# Altium schematic symbol library Modules.SchLib: 5 symbols
Pins are listed as number, name and electrical type; pins without a type are passive.

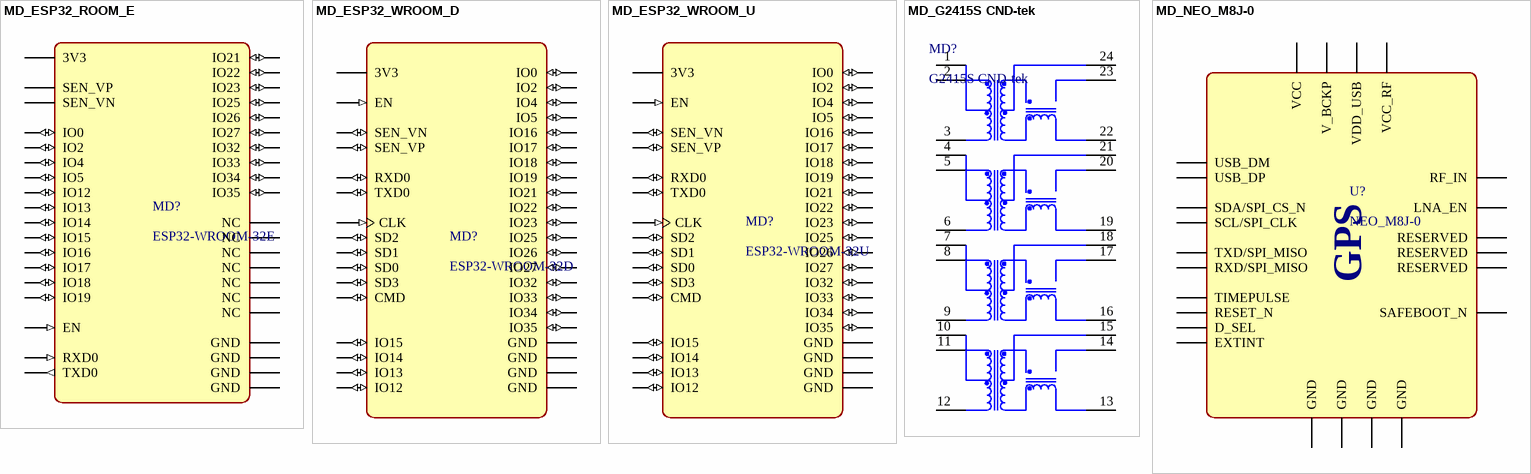
[diagram p0: symbols MD_ESP32_ROOM_E to MD_NEO_M8J-0]

## MD_ESP32_ROOM_E
designator MD?, comment ESP32-WROOM-32E
Multiprotocol Modules SMD Module ESP32-WROOM-32E, ESP32-D0WD-V3, 4 MB SPI flash, PCB antenna; Mrf. Part: ?; LSCS Part: ?; JLCPCB Part: ?
footprint MD_ESP32_ROOM_E
pins: 1 GND, 2 3V3, 3 EN (in), 4 SEN_VP, 5 SEN_VN, 6 IO34 (io), 7 IO35 (io), 8 IO32 (io), 9 IO33 (io), 10 IO25 (io), 11 IO26 (io), 12 IO27 (io), 13 IO14 (io), 14 IO12 (io), 15 GND, 16 IO13 (io), 17 NC, 18 NC, 19 NC, 20 NC, 21 NC, 22 NC, 23 IO15 (io), 24 IO2 (io), 25 IO0 (io), 26 IO4 (io), 27 IO16 (io), 28 IO17 (io), 29 IO5 (io), 30 IO18 (io), 31 IO19 (io), 32 NC, 33 IO21 (io), 34 RXD0 (in), 35 TXD0 (out), 36 IO22 (io), 37 IO23 (io), 38 GND, 39 GND

## MD_ESP32_WROOM_D
designator MD?, comment ESP32-WROOM-32D
core ESP32-D0WD, 32Mbits, 3.3V, 40Mhz, onboard antenna; Mrf. Part: ?; LCSCPCB Part: ?; JLCPCB Part: ?
footprint MD_ESP32_WROOM_D
pins: 1 GND, 2 3V3, 3 EN (in), 4 SEN_VP (io), 5 SEN_VN (io), 6 IO34 (io), 7 IO35 (io), 8 IO32 (io), 9 IO33 (io), 10 IO25 (io), 11 IO26 (io), 12 IO27 (io), 13 IO14 (io), 14 IO12 (io), 15 GND (power), 16 IO13 (io), 17 SD2 (io), 18 SD3 (io), 19 CMD (io), 20 CLK (in), 21 SD0 (io), 22 SD1 (io), 23 IO15 (io), 24 IO2 (io), 25 IO0 (io), 26 IO4 (io), 27 IO16 (io), 28 IO17 (io), 29 IO5 (io), 30 IO18 (io), 31 IO19 (io), 33 IO21 (io), 34 RXD0 (io), 35 TXD0 (io), 36 IO22 (io), 37 IO23 (io), 38 GND (power), 39 GND (power)

## MD_ESP32_WROOM_U
designator MD?, comment ESP32-WROOM-32U
Core ESP32-D0WD, 32Mbits, 3.3V, 40Mhz, U.FL connector; Mrf. Part: ?; LCSCPCB Part: ?; JLCPCB Part: ?
footprint MD_ESP32_WROOM_U
pins: 1 GND, 2 3V3, 3 EN (in), 4 SEN_VP (io), 5 SEN_VN (io), 6 IO34 (io), 7 IO35 (io), 8 IO32 (io), 9 IO33 (io), 10 IO25 (io), 11 IO26 (io), 12 IO27 (io), 13 IO14 (io), 14 IO12 (io), 15 GND (power), 16 IO13 (io), 17 SD2 (io), 18 SD3 (io), 19 CMD (io), 20 CLK (in), 21 SD0 (io), 22 SD1 (io), 23 IO15 (io), 24 IO2 (io), 25 IO0 (io), 26 IO4 (io), 27 IO16 (io), 28 IO17 (io), 29 IO5 (io), 30 IO18 (io), 31 IO19 (io), 33 IO21 (io), 34 RXD0 (io), 35 TXD0 (io), 36 IO22 (io), 37 IO23 (io), 38 GND (power), 39 GND (power)

## MD_G2415S CND-tek
designator MD?, comment G2415S CND-tek
1:1 Single port 1000M POE SMD-24P,15.1x7.1mm Pulse Transformers(LAN) ROHS; Mrf. Part: ?; LCSC Part: ?; JLCPCB Part: ?
footprint MD_G2415S CND-tek
pins: 1 TCT1, 2 TD1+, 3 TD1-, 4 TCT2, 5 TD2+, 6 TD2-, 7 TCT3, 8 TD2+, 9 TD3-, 10 TCT4, 11 TD4+, 12 TD4-, 13 MX4-, 14 MX4+, 15 MCT4, 16 MXT3-, 17 MXT3+, 18 MCT3, 19 MX2-, 20 MX2+, 21 MCT2, 22 MX1-, 23 MX1+, 24 MCT1

## MD_NEO_M8J-0
designator U?, comment NEO_M8J-0
u-blox M8 concurrent GNSS module; Mrf. Part: ?; LCSC Part: ?; JLCPCB Part: ?
footprint NEO_M8
pins: 1 SAFEBOOT_N, 2 D_SEL, 3 TIMEPULSE, 4 EXTINT, 5 USB_DM, 6 USB_DP, 7 VDD_USB, 8 RESET_N, 9 VCC_RF, 10 GND, 11 RF_IN, 12 GND, 13 GND, 14 LNA_EN, 15 RESERVED, 16 RESERVED, 17 RESERVED, 18 SDA/SPI_CS_N, 19 SCL/SPI_CLK, 20 TXD/SPI_MISO, 21 RXD/SPI_MISO, 22 V_BCKP, 23 VCC, 24 GND
text: GPS